# EAGLE library part J-LINK-10PIN-HOLES (library segger)
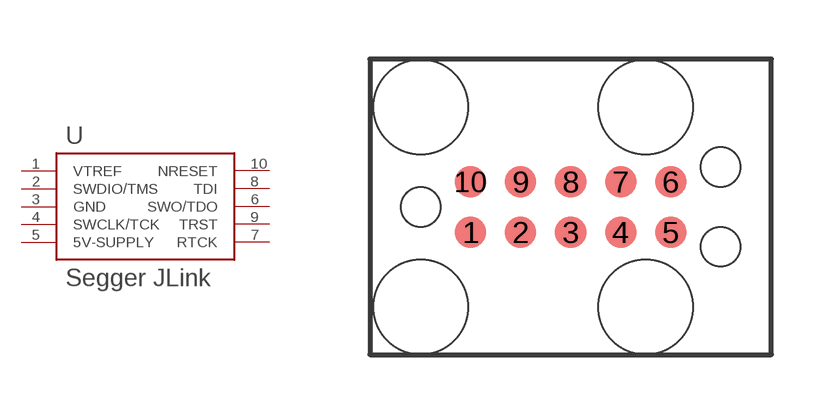
[diagram p0: symbol with the pads of J-LINK-10PIN-HOLES; footprint J-LINK-10PIN-HOLES]

Designator prefix -

## J-LINK-10PIN-HOLES  [J-LINK-10PIN-HOLES]
1  VTREF
2  SWDIO/TMS
3  GND
4  SWCLK/TCK
5  5V-SUPPLY
6  SWO/TDO
7  RTCK
8  TDI
9  TRST
10  NRESET

## Footprint J-LINK-10PIN-HOLES (pad centres in mm)
smd 0.8 x 0.8: 1 1.27,-0.64; 2 2.54,-0.64; 3 3.81,-0.64; 4 5.08,-0.64; 5 6.35,-0.64; 6 6.35,0.64; 7 5.08,0.64; 8 3.81,0.64; 9 2.54,0.64; 10 1.27,0.64
hole 1 at 0,0
hole 1 at 7.62,1.015
hole 1 at 7.62,-1.015
hole 2.4 at 0,2.54
hole 2.4 at 0,-2.54
hole 2.4 at 5.715,2.54
hole 2.4 at 5.715,-2.54